# EAGLE library part MLE-105-01-G-DV (library MLE-105-01-G-DV)
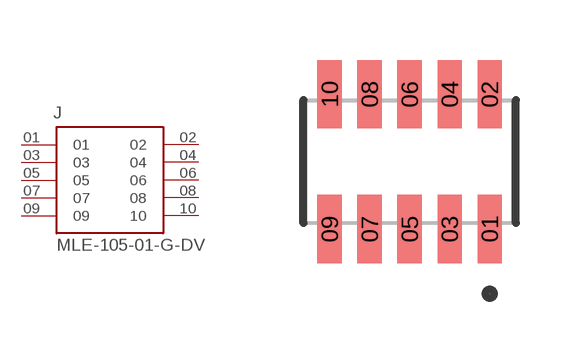
[diagram p0: symbol with the pads of SAMTEC_MLE-105-01-G-DV; footprint SAMTEC_MLE-105-01-G-DV]

Designator prefix J

## MLE-105-01-G-DV (MANUFACTURER: SAMTEC)  [SAMTEC_MLE-105-01-G-DV]
01  01  pas
02  02  pas
03  03  pas
04  04  pas
05  05  pas
06  06  pas
07  07  pas
08  08  pas
09  09  pas
10  10  pas

## Footprint SAMTEC_MLE-105-01-G-DV (pad centres in mm)
smd 0.61 x 1.709: 01 2,-1.685; 02 2,1.685; 03 1,-1.685; 04 1,1.685; 05 0,-1.685; 06 0,1.685; 07 -1,-1.685; 08 -1,1.685; 09 -2,-1.685; 10 -2,1.685